# EAGLE library part TP2X4SMD (library GW-devices)
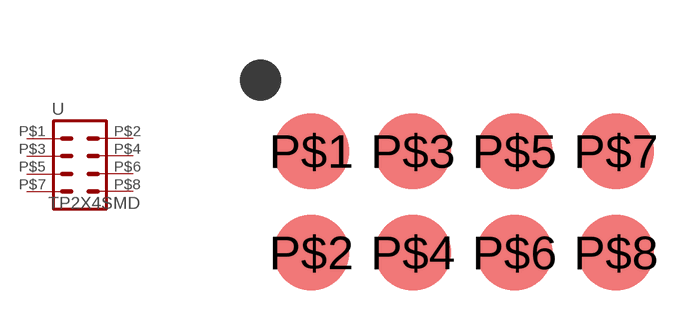
[diagram p55: symbol with the pads of SMD4X2; footprint SMD4X2]

Designator prefix -

## TP2X4SMD  [SMD4X2]
P$1  1  pas
P$2  2  pas
P$3  3  pas
P$4  4  pas
P$5  5  pas
P$6  6  pas
P$7  7  pas
P$8  8  pas

## Footprint SMD4X2 (pad centres in mm)
smd 1.905 x 1.905: P$1 0,0; P$2 0,-2.54; P$3 2.54,0; P$4 2.54,-2.54; P$5 5.08,0; P$6 5.08,-2.54; P$7 7.62,0; P$8 7.62,-2.54